# Altium integrated library Philips Discrete Diode - Switching.IntLib: 284 symbols (part 1 of 5)
Pins are listed as number, name and electrical type; pins without a type are passive.

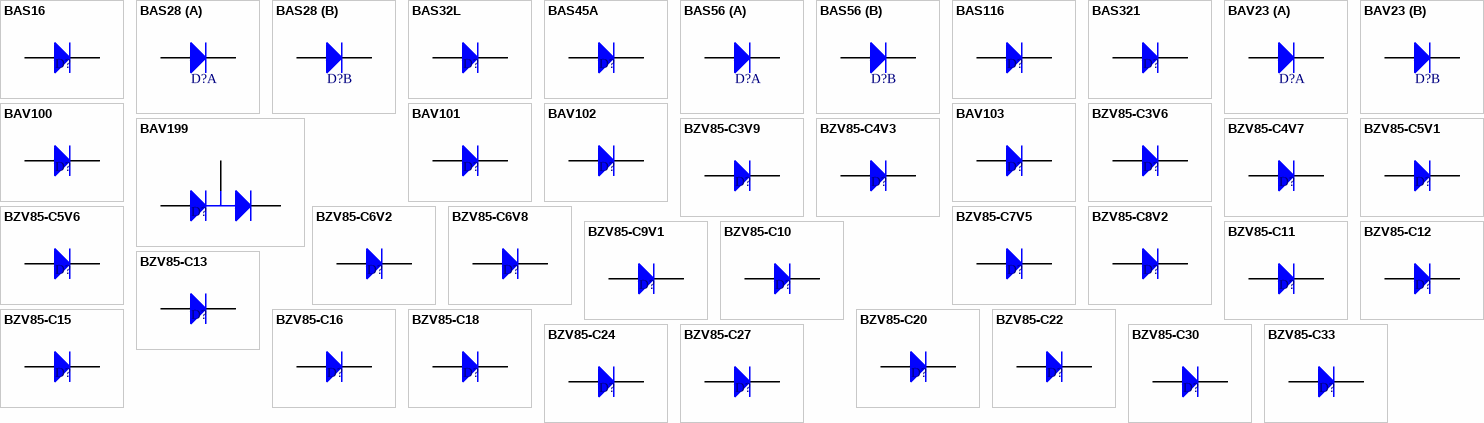
[diagram p0: symbols BAS16 to BZV85-C33]

## BAS16
designator D?
High-speed Switching Diode; Note: Pin 2 is not connected and not drawn; Published: 17-Sep-2003; DatasheetVersion: 10-Oct-2001; PackageVersion: May-1999; PackageReference: SOT23; Publisher: Altium Limited; PackageDescription: SOT-23; 3 Leads; Body 3.0 x 2.5 mm, inc. leads (LxW max); ComponentLink1Description: Manufacturer Link; ComponentLink1URL: http://www.semiconductors.philips.com/; ComponentLink2Description: Datasheet; ComponentLink2URL: http://www.semiconductors.philips.com/acrobat/datasheets/BAS16_4.pdf
footprint SOT23 (SOT-23; 3 Leads; Body 3.0 x 2.5 mm, inc. leads (LxW max))
simulation model BAS16 (SUBCKT)
signal-integrity model BAS16
pins: 1 A, 3 K

## BAS28
designator D?
High-speed Switching, Double Diode; Published: 17-Sep-2003; DatasheetVersion: 10-Sep-1996; PackageVersion: Sep-1996; PackageReference: SOT143; Publisher: Altium Limited; PackageDescription: SOT-143; 4 Leads; Body 3 x 2.5 mm, inc. leads (LxW max); ComponentLink1Description: Manufacturer Link; ComponentLink1URL: http://www.semiconductors.philips.com/; ComponentLink2Description: Datasheet; ComponentLink2URL: http://www.semiconductors.philips.com/acrobat/datasheets/BAS28_2.pdf
footprint SOT143 (SOT-143; 4 Leads; Body 3 x 2.5 mm, inc. leads (LxW max))
simulation model BAS28 (SUBCKT)
signal-integrity model BAS28
part A pins: 1 K, 4 A
part B pins: 2 K, 3 A

## BAS32L
designator D?
High-speed Switching Diode; Published: 17-Sep-2003; LatestRevisionDate: 19-Mar-2004; LatestRevisionNote: Silkscreen size reduced.; DatasheetVersion: 23-Jan-2002; PackageVersion: Jan-2002; PackageReference: SOD80C; Publisher: Altium Limited; PackageDescription: Metal Electrode Face (MELF) Diode; Body 3.5 x 1.6 mm (LxDia); ComponentLink1Description: Manufacturer Link; ComponentLink1URL: http://www.semiconductors.philips.com/; ComponentLink2Description: Datasheet; ComponentLink2URL: http://www.semiconductors.philips.com/acrobat/datasheets/BAS32L_4.pdf
footprint SOD80C (Metal Electrode Face (MELF) Diode; Body 3.5 x 1.6 mm (LxDia))
simulation model BAS32L (SUBCKT)
signal-integrity model BAS32L
pins: 1 A, 2 K

## BAS45A
designator D?
Medium-speed Switching Diode with Low Leakage Current; Published: 17-Sep-2003; DatasheetVersion: 13-Mar-1996; PackageVersion: May-2000; PackageReference: SOD68; Publisher: Altium Limited; PackageDescription: Diode, Axial; Body 3 x 1.6 mm (LxDia. max), Lead Dia. 0.55 mm (max); Code_JEDEC: DO-204-AG; ComponentLink1Description: Manufacturer Link; ComponentLink1URL: http://www.semiconductors.philips.com/; ComponentLink2Description: Datasheet; ComponentLink2URL: http://www.semiconductors.philips.com/acrobat/datasheets/BAS45A_2.pdf
footprint SOD68 (Diode, Axial; Body 3 x 1.6 mm (LxDia. max), Lead Dia. 0.55 mm (max))
simulation model BAS45A (SUBCKT)
signal-integrity model BAS45A
pins: 1 A, 2 K

## BAS56
designator D?
High-speed Switching, Double Diode; Published: 17-Sep-2003; DatasheetVersion: 10-Sep-1996; PackageVersion: Sep-1996; PackageReference: SOT143; Publisher: Altium Limited; PackageDescription: SOT-143; 4 Leads; Body 3 x 2.5 mm, inc. leads (LxW max); ComponentLink1Description: Manufacturer Link; ComponentLink1URL: http://www.semiconductors.philips.com/; ComponentLink2Description: Datasheet; ComponentLink2URL: http://www.semiconductors.philips.com/acrobat/datasheets/BAS56_2.pdf
footprint SOT143 (SOT-143; 4 Leads; Body 3 x 2.5 mm, inc. leads (LxW max))
simulation model BAS56 (DIODE)
signal-integrity model BAS56
part A pins: 1 K, 4 A
part B pins: 2 K, 3 A

## BAS116
designator D?
Medium-speed Switching Diode with Low Leakage Current; Note: Pin 2 is not connected and not drawn; Published: 17-Sep-2003; DatasheetVersion: 26-May-1999; PackageVersion: May-1999; PackageReference: SOT23; Publisher: Altium Limited; PackageDescription: SOT-23; 3 Leads; Body 3.0 x 2.5 mm, inc. leads (LxW max); ComponentLink1Description: Manufacturer Link; ComponentLink1URL: http://www.semiconductors.philips.com/; ComponentLink2Description: Datasheet; ComponentLink2URL: http://www.semiconductors.philips.com/acrobat/datasheets/BAS116_4.pdf
footprint SOT23 (SOT-23; 3 Leads; Body 3.0 x 2.5 mm, inc. leads (LxW max))
simulation model BAS116 (SUBCKT)
signal-integrity model BAS116
pins: 1 A, 3 K

## BAS321
designator D?
General-purpose Diode; Published: 17-Sep-2003; LatestRevisionDate: 19-Mar-2004; LatestRevisionNote: Silkscreen size reduced.; DatasheetVersion: 9-Feb-1999; PackageVersion: May-1999; PackageReference: SOD323; Publisher: Altium Limited; PackageDescription: SOD-323/SC-76; 2 Leads; Body 1.7 x 1.3 mm, (LxW); ComponentLink1Description: Manufacturer Link; ComponentLink1URL: http://www.semiconductors.philips.com/; ComponentLink2Description: Datasheet; ComponentLink2URL: http://www.semiconductors.philips.com/acrobat/datasheets/BAS321_2.pdf
footprint SOD323 (SOD-323/SC-76; 2 Leads; Body 1.7 x 1.3 mm, (LxW))
simulation model BAS321 (SUBCKT)
signal-integrity model BAS321
pins: 1 K, 2 A

## BAV23
designator D?
General-purpose Double Diode; Published: 17-Sep-2003; DatasheetVersion: 17-Sep-1996; PackageVersion: Sep-1996; PackageReference: SOT143; Publisher: Altium Limited; PackageDescription: SOT-143; 4 Leads; Body 3 x 2.5 mm, inc. leads (LxW max); ComponentLink1Description: Manufacturer Link; ComponentLink1URL: http://www.semiconductors.philips.com/; ComponentLink2Description: Datasheet; ComponentLink2URL: http://www.semiconductors.philips.com/acrobat/datasheets/BAV23_2.pdf
footprint SOT143 (SOT-143; 4 Leads; Body 3 x 2.5 mm, inc. leads (LxW max))
simulation model BAV23 (SUBCKT)
signal-integrity model BAV23
part A pins: 1 K, 4 A
part B pins: 2 K, 3 A

## BAV100
designator D?
General-purpose Diode; Published: 17-Sep-2003; LatestRevisionDate: 19-Mar-2004; LatestRevisionNote: Silkscreen size reduced.; DatasheetVersion: 17-Sep-1996; PackageVersion: Jan-2002; PackageReference: SOD80C; Publisher: Altium Limited; PackageDescription: Metal Electrode Face (MELF) Diode; Body 3.5 x 1.6 mm (LxDia); ComponentLink1Description: Manufacturer Link; ComponentLink1URL: http://www.semiconductors.philips.com/; ComponentLink2Description: Datasheet; ComponentLink2URL: http://www.semiconductors.philips.com/acrobat/datasheets/BAV100_2.pdf
footprint SOD80C (Metal Electrode Face (MELF) Diode; Body 3.5 x 1.6 mm (LxDia))
simulation model BAV103 (SUBCKT)
signal-integrity model BAV100
pins: 1 A, 2 K

## BAV101
designator D?
General-purpose Diode; Published: 17-Sep-2003; LatestRevisionDate: 19-Mar-2004; LatestRevisionNote: Silkscreen size reduced.; DatasheetVersion: 17-Sep-1996; PackageVersion: Jan-2002; PackageReference: SOD80C; Publisher: Altium Limited; PackageDescription: Metal Electrode Face (MELF) Diode; Body 3.5 x 1.6 mm (LxDia); ComponentLink1Description: Manufacturer Link; ComponentLink1URL: http://www.semiconductors.philips.com/; ComponentLink2Description: Datasheet; ComponentLink2URL: http://www.semiconductors.philips.com/acrobat/datasheets/BAV100_2.pdf
footprint SOD80C (Metal Electrode Face (MELF) Diode; Body 3.5 x 1.6 mm (LxDia))
simulation model BAV103 (SUBCKT)
signal-integrity model BAV101
pins: 1 A, 2 K

## BAV102
designator D?
General-purpose Diode; Published: 17-Sep-2003; LatestRevisionDate: 19-Mar-2004; LatestRevisionNote: Silkscreen size reduced.; DatasheetVersion: 17-Sep-1996; PackageVersion: Jan-2002; PackageReference: SOD80C; Publisher: Altium Limited; PackageDescription: Metal Electrode Face (MELF) Diode; Body 3.5 x 1.6 mm (LxDia); ComponentLink1Description: Manufacturer Link; ComponentLink1URL: http://www.semiconductors.philips.com/; ComponentLink2Description: Datasheet; ComponentLink2URL: http://www.semiconductors.philips.com/acrobat/datasheets/BAV100_2.pdf
footprint SOD80C (Metal Electrode Face (MELF) Diode; Body 3.5 x 1.6 mm (LxDia))
simulation model BAV103 (SUBCKT)
signal-integrity model BAV102
pins: 1 A, 2 K

## BAV103
designator D?
General-purpose Diode; Published: 17-Sep-2003; LatestRevisionDate: 19-Mar-2004; LatestRevisionNote: Silkscreen size reduced.; DatasheetVersion: 17-Sep-1996; PackageVersion: Jan-2002; PackageReference: SOD80C; Publisher: Altium Limited; PackageDescription: Metal Electrode Face (MELF) Diode; Body 3.5 x 1.6 mm (LxDia); ComponentLink1Description: Manufacturer Link; ComponentLink1URL: http://www.semiconductors.philips.com/; ComponentLink2Description: Datasheet; ComponentLink2URL: http://www.semiconductors.philips.com/acrobat/datasheets/BAV100_2.pdf
footprint SOD80C (Metal Electrode Face (MELF) Diode; Body 3.5 x 1.6 mm (LxDia))
simulation model BAV103 (SUBCKT)
signal-integrity model BAV103
pins: 1 A, 2 K

## BAV199
designator D?
Medium-speed Switching Double Diode with Low Leakage Current; Published: 17-Sep-2003; DatasheetVersion: 12-Oct-2001; PackageVersion: May-1999; PackageReference: SOT23; Publisher: Altium Limited; PackageDescription: SOT-23; 3 Leads; Body 3.0 x 2.5 mm, inc. leads (LxW max); ComponentLink1Description: Manufacturer Link; ComponentLink1URL: http://www.semiconductors.philips.com/; ComponentLink2Description: Datasheet; ComponentLink2URL: http://www.semiconductors.philips.com/acrobat/datasheets/BAV199_4.pdf
footprint SOT23 (SOT-23; 3 Leads; Body 3.0 x 2.5 mm, inc. leads (LxW max))
simulation model BAV199 (SUBCKT)
signal-integrity model BAV199
pins: 1 A, 2 K, 3 C

## BZV85-C3V6
designator D?
Voltage Regulator Diode; Published: 17-Sep-2003; DatasheetVersion: 11-May-1999; PackageVersion: May-1999; PackageReference: SOD66; Publisher: Altium Limited; PackageDescription: Diode, Axial; Body 4.8 x 2.6 mm (LxDia. max), Lead Dia. 0.81 mm (max); Code_JEDEC: DO-204-AL; ComponentLink1Description: Manufacturer Link; ComponentLink1URL: http://www.semiconductors.philips.com/; ComponentLink2Description: Datasheet; ComponentLink2URL: http://www.semiconductors.philips.com/acrobat/datasheets/BZV85_2.pdf
footprint SOD66 (Diode, Axial; Body 4.8 x 2.6 mm (LxDia. max), Lead Dia. 0.81 mm (max))
simulation model BZV85C3V6 (SUBCKT)
signal-integrity model BZV85-C3V6
pins: 1 A, 2 K

## BZV85-C3V9
designator D?
Voltage Regulator Diode; Published: 17-Sep-2003; DatasheetVersion: 11-May-1999; PackageVersion: May-1999; PackageReference: SOD66; Publisher: Altium Limited; PackageDescription: Diode, Axial; Body 4.8 x 2.6 mm (LxDia. max), Lead Dia. 0.81 mm (max); Code_JEDEC: DO-204-AL; ComponentLink1Description: Manufacturer Link; ComponentLink1URL: http://www.semiconductors.philips.com/; ComponentLink2Description: Datasheet; ComponentLink2URL: http://www.semiconductors.philips.com/acrobat/datasheets/BZV85_2.pdf
footprint SOD66 (Diode, Axial; Body 4.8 x 2.6 mm (LxDia. max), Lead Dia. 0.81 mm (max))
simulation model BZV85C3V9 (SUBCKT)
signal-integrity model BZV85-C3V9
pins: 1 A, 2 K

## BZV85-C4V3
designator D?
Voltage Regulator Diode; Published: 17-Sep-2003; DatasheetVersion: 11-May-1999; PackageVersion: May-1999; PackageReference: SOD66; Publisher: Altium Limited; PackageDescription: Diode, Axial; Body 4.8 x 2.6 mm (LxDia. max), Lead Dia. 0.81 mm (max); Code_JEDEC: DO-204-AL; ComponentLink1Description: Manufacturer Link; ComponentLink1URL: http://www.semiconductors.philips.com/; ComponentLink2Description: Datasheet; ComponentLink2URL: http://www.semiconductors.philips.com/acrobat/datasheets/BZV85_2.pdf
footprint SOD66 (Diode, Axial; Body 4.8 x 2.6 mm (LxDia. max), Lead Dia. 0.81 mm (max))
simulation model BZV85C4V3 (SUBCKT)
signal-integrity model BZV85-C4V3
pins: 1 A, 2 K

## BZV85-C4V7
designator D?
Voltage Regulator Diode; Published: 17-Sep-2003; DatasheetVersion: 11-May-1999; PackageVersion: May-1999; PackageReference: SOD66; Publisher: Altium Limited; PackageDescription: Diode, Axial; Body 4.8 x 2.6 mm (LxDia. max), Lead Dia. 0.81 mm (max); Code_JEDEC: DO-204-AL; ComponentLink1Description: Manufacturer Link; ComponentLink1URL: http://www.semiconductors.philips.com/; ComponentLink2Description: Datasheet; ComponentLink2URL: http://www.semiconductors.philips.com/acrobat/datasheets/BZV85_2.pdf
footprint SOD66 (Diode, Axial; Body 4.8 x 2.6 mm (LxDia. max), Lead Dia. 0.81 mm (max))
simulation model BZV85C4V7 (SUBCKT)
signal-integrity model BZV85-C4V7
pins: 1 A, 2 K

## BZV85-C5V1
designator D?
Voltage Regulator Diode; Published: 17-Sep-2003; DatasheetVersion: 11-May-1999; PackageVersion: May-1999; PackageReference: SOD66; Publisher: Altium Limited; PackageDescription: Diode, Axial; Body 4.8 x 2.6 mm (LxDia. max), Lead Dia. 0.81 mm (max); Code_JEDEC: DO-204-AL; ComponentLink1Description: Manufacturer Link; ComponentLink1URL: http://www.semiconductors.philips.com/; ComponentLink2Description: Datasheet; ComponentLink2URL: http://www.semiconductors.philips.com/acrobat/datasheets/BZV85_2.pdf
footprint SOD66 (Diode, Axial; Body 4.8 x 2.6 mm (LxDia. max), Lead Dia. 0.81 mm (max))
simulation model BZV85C5V1 (SUBCKT)
signal-integrity model BZV85-C5V1
pins: 1 A, 2 K

## BZV85-C5V6
designator D?
Voltage Regulator Diode; Published: 17-Sep-2003; DatasheetVersion: 11-May-1999; PackageVersion: May-1999; PackageReference: SOD66; Publisher: Altium Limited; PackageDescription: Diode, Axial; Body 4.8 x 2.6 mm (LxDia. max), Lead Dia. 0.81 mm (max); Code_JEDEC: DO-204-AL; ComponentLink1Description: Manufacturer Link; ComponentLink1URL: http://www.semiconductors.philips.com/; ComponentLink2Description: Datasheet; ComponentLink2URL: http://www.semiconductors.philips.com/acrobat/datasheets/BZV85_2.pdf
footprint SOD66 (Diode, Axial; Body 4.8 x 2.6 mm (LxDia. max), Lead Dia. 0.81 mm (max))
simulation model BZV85C5V6 (SUBCKT)
signal-integrity model BZV85-C5V6
pins: 1 A, 2 K

## BZV85-C6V2
designator D?
Voltage Regulator Diode; Published: 17-Sep-2003; DatasheetVersion: 11-May-1999; PackageVersion: May-1999; PackageReference: SOD66; Publisher: Altium Limited; PackageDescription: Diode, Axial; Body 4.8 x 2.6 mm (LxDia. max), Lead Dia. 0.81 mm (max); Code_JEDEC: DO-204-AL; ComponentLink1Description: Manufacturer Link; ComponentLink1URL: http://www.semiconductors.philips.com/; ComponentLink2Description: Datasheet; ComponentLink2URL: http://www.semiconductors.philips.com/acrobat/datasheets/BZV85_2.pdf
footprint SOD66 (Diode, Axial; Body 4.8 x 2.6 mm (LxDia. max), Lead Dia. 0.81 mm (max))
simulation model BZV85C6V2 (SUBCKT)
signal-integrity model BZV85-C6V2
pins: 1 A, 2 K

## BZV85-C6V8
designator D?
Voltage Regulator Diode; Published: 17-Sep-2003; DatasheetVersion: 11-May-1999; PackageVersion: May-1999; PackageReference: SOD66; Publisher: Altium Limited; PackageDescription: Diode, Axial; Body 4.8 x 2.6 mm (LxDia. max), Lead Dia. 0.81 mm (max); Code_JEDEC: DO-204-AL; ComponentLink1Description: Manufacturer Link; ComponentLink1URL: http://www.semiconductors.philips.com/; ComponentLink2Description: Datasheet; ComponentLink2URL: http://www.semiconductors.philips.com/acrobat/datasheets/BZV85_2.pdf
footprint SOD66 (Diode, Axial; Body 4.8 x 2.6 mm (LxDia. max), Lead Dia. 0.81 mm (max))
simulation model BZV85C6V8 (SUBCKT)
signal-integrity model BZV85-C6V8
pins: 1 A, 2 K

## BZV85-C7V5
designator D?
Voltage Regulator Diode; Published: 17-Sep-2003; DatasheetVersion: 11-May-1999; PackageVersion: May-1999; PackageReference: SOD66; Publisher: Altium Limited; PackageDescription: Diode, Axial; Body 4.8 x 2.6 mm (LxDia. max), Lead Dia. 0.81 mm (max); Code_JEDEC: DO-204-AL; ComponentLink1Description: Manufacturer Link; ComponentLink1URL: http://www.semiconductors.philips.com/; ComponentLink2Description: Datasheet; ComponentLink2URL: http://www.semiconductors.philips.com/acrobat/datasheets/BZV85_2.pdf
footprint SOD66 (Diode, Axial; Body 4.8 x 2.6 mm (LxDia. max), Lead Dia. 0.81 mm (max))
simulation model BZV85C7V5 (SUBCKT)
signal-integrity model BZV85-C7V5
pins: 1 A, 2 K

## BZV85-C8V2
designator D?
Voltage Regulator Diode; Published: 17-Sep-2003; DatasheetVersion: 11-May-1999; PackageVersion: May-1999; PackageReference: SOD66; Publisher: Altium Limited; PackageDescription: Diode, Axial; Body 4.8 x 2.6 mm (LxDia. max), Lead Dia. 0.81 mm (max); Code_JEDEC: DO-204-AL; ComponentLink1Description: Manufacturer Link; ComponentLink1URL: http://www.semiconductors.philips.com/; ComponentLink2Description: Datasheet; ComponentLink2URL: http://www.semiconductors.philips.com/acrobat/datasheets/BZV85_2.pdf
footprint SOD66 (Diode, Axial; Body 4.8 x 2.6 mm (LxDia. max), Lead Dia. 0.81 mm (max))
simulation model BZV85C8V2 (SUBCKT)
signal-integrity model BZV85-C8V2
pins: 1 A, 2 K

## BZV85-C9V1
designator D?
Voltage Regulator Diode; Published: 17-Sep-2003; DatasheetVersion: 11-May-1999; PackageVersion: May-1999; PackageReference: SOD66; Publisher: Altium Limited; PackageDescription: Diode, Axial; Body 4.8 x 2.6 mm (LxDia. max), Lead Dia. 0.81 mm (max); Code_JEDEC: DO-204-AL; ComponentLink1Description: Manufacturer Link; ComponentLink1URL: http://www.semiconductors.philips.com/; ComponentLink2Description: Datasheet; ComponentLink2URL: http://www.semiconductors.philips.com/acrobat/datasheets/BZV85_2.pdf
footprint SOD66 (Diode, Axial; Body 4.8 x 2.6 mm (LxDia. max), Lead Dia. 0.81 mm (max))
simulation model BZV85C9V1 (SUBCKT)
signal-integrity model BZV85-C9V1
pins: 1 A, 2 K

## BZV85-C10
designator D?
Voltage Regulator Diode; Published: 17-Sep-2003; DatasheetVersion: 11-May-1999; PackageVersion: May-1999; PackageReference: SOD66; Publisher: Altium Limited; PackageDescription: Diode, Axial; Body 4.8 x 2.6 mm (LxDia. max), Lead Dia. 0.81 mm (max); Code_JEDEC: DO-204-AL; ComponentLink1Description: Manufacturer Link; ComponentLink1URL: http://www.semiconductors.philips.com/; ComponentLink2Description: Datasheet; ComponentLink2URL: http://www.semiconductors.philips.com/acrobat/datasheets/BZV85_2.pdf
footprint SOD66 (Diode, Axial; Body 4.8 x 2.6 mm (LxDia. max), Lead Dia. 0.81 mm (max))
simulation model BZV85C10 (SUBCKT)
signal-integrity model BZV85-C10
pins: 1 A, 2 K

## BZV85-C11
designator D?
Voltage Regulator Diode; Published: 17-Sep-2003; DatasheetVersion: 11-May-1999; PackageVersion: May-1999; PackageReference: SOD66; Publisher: Altium Limited; PackageDescription: Diode, Axial; Body 4.8 x 2.6 mm (LxDia. max), Lead Dia. 0.81 mm (max); Code_JEDEC: DO-204-AL; ComponentLink1Description: Manufacturer Link; ComponentLink1URL: http://www.semiconductors.philips.com/; ComponentLink2Description: Datasheet; ComponentLink2URL: http://www.semiconductors.philips.com/acrobat/datasheets/BZV85_2.pdf
footprint SOD66 (Diode, Axial; Body 4.8 x 2.6 mm (LxDia. max), Lead Dia. 0.81 mm (max))
simulation model BZV85C11 (SUBCKT)
signal-integrity model BZV85-C11
pins: 1 A, 2 K

## BZV85-C12
designator D?
Voltage Regulator Diode; Published: 17-Sep-2003; DatasheetVersion: 11-May-1999; PackageVersion: May-1999; PackageReference: SOD66; Publisher: Altium Limited; PackageDescription: Diode, Axial; Body 4.8 x 2.6 mm (LxDia. max), Lead Dia. 0.81 mm (max); Code_JEDEC: DO-204-AL; ComponentLink1Description: Manufacturer Link; ComponentLink1URL: http://www.semiconductors.philips.com/; ComponentLink2Description: Datasheet; ComponentLink2URL: http://www.semiconductors.philips.com/acrobat/datasheets/BZV85_2.pdf
footprint SOD66 (Diode, Axial; Body 4.8 x 2.6 mm (LxDia. max), Lead Dia. 0.81 mm (max))
simulation model BZV85C12 (SUBCKT)
signal-integrity model BZV85-C12
pins: 1 A, 2 K

## BZV85-C13
designator D?
Voltage Regulator Diode; Published: 17-Sep-2003; DatasheetVersion: 11-May-1999; PackageVersion: May-1999; PackageReference: SOD66; Publisher: Altium Limited; PackageDescription: Diode, Axial; Body 4.8 x 2.6 mm (LxDia. max), Lead Dia. 0.81 mm (max); Code_JEDEC: DO-204-AL; ComponentLink1Description: Manufacturer Link; ComponentLink1URL: http://www.semiconductors.philips.com/; ComponentLink2Description: Datasheet; ComponentLink2URL: http://www.semiconductors.philips.com/acrobat/datasheets/BZV85_2.pdf
footprint SOD66 (Diode, Axial; Body 4.8 x 2.6 mm (LxDia. max), Lead Dia. 0.81 mm (max))
simulation model BZV85C13 (SUBCKT)
signal-integrity model BZV85-C13
pins: 1 A, 2 K

## BZV85-C15
designator D?
Voltage Regulator Diode; Published: 17-Sep-2003; DatasheetVersion: 11-May-1999; PackageVersion: May-1999; PackageReference: SOD66; Publisher: Altium Limited; PackageDescription: Diode, Axial; Body 4.8 x 2.6 mm (LxDia. max), Lead Dia. 0.81 mm (max); Code_JEDEC: DO-204-AL; ComponentLink1Description: Manufacturer Link; ComponentLink1URL: http://www.semiconductors.philips.com/; ComponentLink2Description: Datasheet; ComponentLink2URL: http://www.semiconductors.philips.com/acrobat/datasheets/BZV85_2.pdf
footprint SOD66 (Diode, Axial; Body 4.8 x 2.6 mm (LxDia. max), Lead Dia. 0.81 mm (max))
simulation model BZV85C15 (SUBCKT)
signal-integrity model BZV85-C15
pins: 1 A, 2 K

## BZV85-C16
designator D?
Voltage Regulator Diode; Published: 17-Sep-2003; DatasheetVersion: 11-May-1999; PackageVersion: May-1999; PackageReference: SOD66; Publisher: Altium Limited; PackageDescription: Diode, Axial; Body 4.8 x 2.6 mm (LxDia. max), Lead Dia. 0.81 mm (max); Code_JEDEC: DO-204-AL; ComponentLink1Description: Manufacturer Link; ComponentLink1URL: http://www.semiconductors.philips.com/; ComponentLink2Description: Datasheet; ComponentLink2URL: http://www.semiconductors.philips.com/acrobat/datasheets/BZV85_2.pdf
footprint SOD66 (Diode, Axial; Body 4.8 x 2.6 mm (LxDia. max), Lead Dia. 0.81 mm (max))
simulation model BZV85C16 (SUBCKT)
signal-integrity model BZV85-C16
pins: 1 A, 2 K

## BZV85-C18
designator D?
Voltage Regulator Diode; Published: 17-Sep-2003; DatasheetVersion: 11-May-1999; PackageVersion: May-1999; PackageReference: SOD66; Publisher: Altium Limited; PackageDescription: Diode, Axial; Body 4.8 x 2.6 mm (LxDia. max), Lead Dia. 0.81 mm (max); Code_JEDEC: DO-204-AL; ComponentLink1Description: Manufacturer Link; ComponentLink1URL: http://www.semiconductors.philips.com/; ComponentLink2Description: Datasheet; ComponentLink2URL: http://www.semiconductors.philips.com/acrobat/datasheets/BZV85_2.pdf
footprint SOD66 (Diode, Axial; Body 4.8 x 2.6 mm (LxDia. max), Lead Dia. 0.81 mm (max))
simulation model BZV85C18 (SUBCKT)
signal-integrity model BZV85-C18
pins: 1 A, 2 K

## BZV85-C20
designator D?
Voltage Regulator Diode; Published: 17-Sep-2003; DatasheetVersion: 11-May-1999; PackageVersion: May-1999; PackageReference: SOD66; Publisher: Altium Limited; PackageDescription: Diode, Axial; Body 4.8 x 2.6 mm (LxDia. max), Lead Dia. 0.81 mm (max); Code_JEDEC: DO-204-AL; ComponentLink1Description: Manufacturer Link; ComponentLink1URL: http://www.semiconductors.philips.com/; ComponentLink2Description: Datasheet; ComponentLink2URL: http://www.semiconductors.philips.com/acrobat/datasheets/BZV85_2.pdf
footprint SOD66 (Diode, Axial; Body 4.8 x 2.6 mm (LxDia. max), Lead Dia. 0.81 mm (max))
simulation model BZV85C20 (SUBCKT)
signal-integrity model BZV85-C20
pins: 1 A, 2 K

## BZV85-C22
designator D?
Voltage Regulator Diode; Published: 17-Sep-2003; DatasheetVersion: 11-May-1999; PackageVersion: May-1999; PackageReference: SOD66; Publisher: Altium Limited; PackageDescription: Diode, Axial; Body 4.8 x 2.6 mm (LxDia. max), Lead Dia. 0.81 mm (max); Code_JEDEC: DO-204-AL; ComponentLink1Description: Manufacturer Link; ComponentLink1URL: http://www.semiconductors.philips.com/; ComponentLink2Description: Datasheet; ComponentLink2URL: http://www.semiconductors.philips.com/acrobat/datasheets/BZV85_2.pdf
footprint SOD66 (Diode, Axial; Body 4.8 x 2.6 mm (LxDia. max), Lead Dia. 0.81 mm (max))
simulation model BZV85C22 (SUBCKT)
signal-integrity model BZV85-C22
pins: 1 A, 2 K

## BZV85-C24
designator D?
Voltage Regulator Diode; Published: 17-Sep-2003; DatasheetVersion: 11-May-1999; PackageVersion: May-1999; PackageReference: SOD66; Publisher: Altium Limited; PackageDescription: Diode, Axial; Body 4.8 x 2.6 mm (LxDia. max), Lead Dia. 0.81 mm (max); Code_JEDEC: DO-204-AL; ComponentLink1Description: Manufacturer Link; ComponentLink1URL: http://www.semiconductors.philips.com/; ComponentLink2Description: Datasheet; ComponentLink2URL: http://www.semiconductors.philips.com/acrobat/datasheets/BZV85_2.pdf
footprint SOD66 (Diode, Axial; Body 4.8 x 2.6 mm (LxDia. max), Lead Dia. 0.81 mm (max))
simulation model BZV85C24 (SUBCKT)
signal-integrity model BZV85-C24
pins: 1 A, 2 K

## BZV85-C27
designator D?
Voltage Regulator Diode; Published: 17-Sep-2003; DatasheetVersion: 11-May-1999; PackageVersion: May-1999; PackageReference: SOD66; Publisher: Altium Limited; PackageDescription: Diode, Axial; Body 4.8 x 2.6 mm (LxDia. max), Lead Dia. 0.81 mm (max); Code_JEDEC: DO-204-AL; ComponentLink1Description: Manufacturer Link; ComponentLink1URL: http://www.semiconductors.philips.com/; ComponentLink2Description: Datasheet; ComponentLink2URL: http://www.semiconductors.philips.com/acrobat/datasheets/BZV85_2.pdf
footprint SOD66 (Diode, Axial; Body 4.8 x 2.6 mm (LxDia. max), Lead Dia. 0.81 mm (max))
simulation model BZV85C27 (SUBCKT)
signal-integrity model BZV85-C27
pins: 1 A, 2 K

## BZV85-C30
designator D?
Voltage Regulator Diode; Published: 17-Sep-2003; DatasheetVersion: 11-May-1999; PackageVersion: May-1999; PackageReference: SOD66; Publisher: Altium Limited; PackageDescription: Diode, Axial; Body 4.8 x 2.6 mm (LxDia. max), Lead Dia. 0.81 mm (max); Code_JEDEC: DO-204-AL; ComponentLink1Description: Manufacturer Link; ComponentLink1URL: http://www.semiconductors.philips.com/; ComponentLink2Description: Datasheet; ComponentLink2URL: http://www.semiconductors.philips.com/acrobat/datasheets/BZV85_2.pdf
footprint SOD66 (Diode, Axial; Body 4.8 x 2.6 mm (LxDia. max), Lead Dia. 0.81 mm (max))
simulation model BZV85C30 (SUBCKT)
signal-integrity model BZV85-C30
pins: 1 A, 2 K

## BZV85-C33
designator D?
Voltage Regulator Diode; Published: 17-Sep-2003; DatasheetVersion: 11-May-1999; PackageVersion: May-1999; PackageReference: SOD66; Publisher: Altium Limited; PackageDescription: Diode, Axial; Body 4.8 x 2.6 mm (LxDia. max), Lead Dia. 0.81 mm (max); Code_JEDEC: DO-204-AL; ComponentLink1Description: Manufacturer Link; ComponentLink1URL: http://www.semiconductors.philips.com/; ComponentLink2Description: Datasheet; ComponentLink2URL: http://www.semiconductors.philips.com/acrobat/datasheets/BZV85_2.pdf
footprint SOD66 (Diode, Axial; Body 4.8 x 2.6 mm (LxDia. max), Lead Dia. 0.81 mm (max))
simulation model BZV85C33 (SUBCKT)
signal-integrity model BZV85-C33
pins: 1 A, 2 K

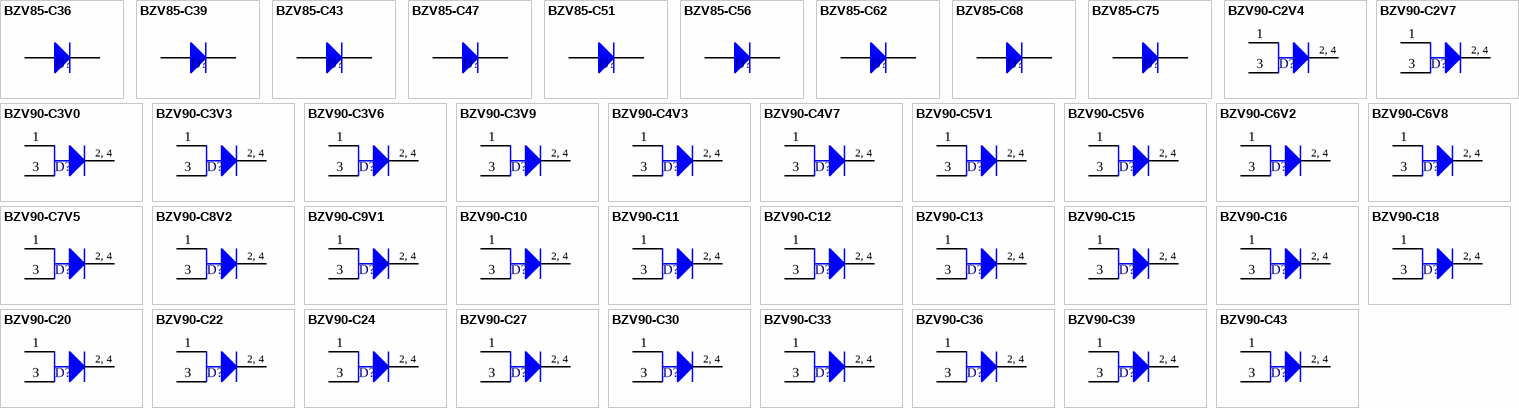
[diagram p1: symbols BZV85-C36 to BZV90-C43]

## BZV85-C36
designator D?
Voltage Regulator Diode; Published: 17-Sep-2003; DatasheetVersion: 11-May-1999; PackageVersion: May-1999; PackageReference: SOD66; Publisher: Altium Limited; PackageDescription: Diode, Axial; Body 4.8 x 2.6 mm (LxDia. max), Lead Dia. 0.81 mm (max); Code_JEDEC: DO-204-AL; ComponentLink1Description: Manufacturer Link; ComponentLink1URL: http://www.semiconductors.philips.com/; ComponentLink2Description: Datasheet; ComponentLink2URL: http://www.semiconductors.philips.com/acrobat/datasheets/BZV85_2.pdf
footprint SOD66 (Diode, Axial; Body 4.8 x 2.6 mm (LxDia. max), Lead Dia. 0.81 mm (max))
simulation model BZV85C36 (SUBCKT)
signal-integrity model BZV85-C36
pins: 1 A, 2 K

## BZV85-C39
designator D?
Voltage Regulator Diode; Published: 17-Sep-2003; DatasheetVersion: 11-May-1999; PackageVersion: May-1999; PackageReference: SOD66; Publisher: Altium Limited; PackageDescription: Diode, Axial; Body 4.8 x 2.6 mm (LxDia. max), Lead Dia. 0.81 mm (max); Code_JEDEC: DO-204-AL; ComponentLink1Description: Manufacturer Link; ComponentLink1URL: http://www.semiconductors.philips.com/; ComponentLink2Description: Datasheet; ComponentLink2URL: http://www.semiconductors.philips.com/acrobat/datasheets/BZV85_2.pdf
footprint SOD66 (Diode, Axial; Body 4.8 x 2.6 mm (LxDia. max), Lead Dia. 0.81 mm (max))
simulation model BZV85C39 (SUBCKT)
signal-integrity model BZV85-C39
pins: 1 A, 2 K

## BZV85-C43
designator D?
Voltage Regulator Diode; Published: 17-Sep-2003; DatasheetVersion: 11-May-1999; PackageVersion: May-1999; PackageReference: SOD66; Publisher: Altium Limited; PackageDescription: Diode, Axial; Body 4.8 x 2.6 mm (LxDia. max), Lead Dia. 0.81 mm (max); Code_JEDEC: DO-204-AL; ComponentLink1Description: Manufacturer Link; ComponentLink1URL: http://www.semiconductors.philips.com/; ComponentLink2Description: Datasheet; ComponentLink2URL: http://www.semiconductors.philips.com/acrobat/datasheets/BZV85_2.pdf
footprint SOD66 (Diode, Axial; Body 4.8 x 2.6 mm (LxDia. max), Lead Dia. 0.81 mm (max))
simulation model BZV85C43 (SUBCKT)
signal-integrity model BZV85-C43
pins: 1 A, 2 K

## BZV85-C47
designator D?
Voltage Regulator Diode; Published: 17-Sep-2003; DatasheetVersion: 11-May-1999; PackageVersion: May-1999; PackageReference: SOD66; Publisher: Altium Limited; PackageDescription: Diode, Axial; Body 4.8 x 2.6 mm (LxDia. max), Lead Dia. 0.81 mm (max); Code_JEDEC: DO-204-AL; ComponentLink1Description: Manufacturer Link; ComponentLink1URL: http://www.semiconductors.philips.com/; ComponentLink2Description: Datasheet; ComponentLink2URL: http://www.semiconductors.philips.com/acrobat/datasheets/BZV85_2.pdf
footprint SOD66 (Diode, Axial; Body 4.8 x 2.6 mm (LxDia. max), Lead Dia. 0.81 mm (max))
simulation model BZV85C47 (SUBCKT)
signal-integrity model BZV85-C47
pins: 1 A, 2 K

## BZV85-C51
designator D?
Voltage Regulator Diode; Published: 17-Sep-2003; DatasheetVersion: 11-May-1999; PackageVersion: May-1999; PackageReference: SOD66; Publisher: Altium Limited; PackageDescription: Diode, Axial; Body 4.8 x 2.6 mm (LxDia. max), Lead Dia. 0.81 mm (max); Code_JEDEC: DO-204-AL; ComponentLink1Description: Manufacturer Link; ComponentLink1URL: http://www.semiconductors.philips.com/; ComponentLink2Description: Datasheet; ComponentLink2URL: http://www.semiconductors.philips.com/acrobat/datasheets/BZV85_2.pdf
footprint SOD66 (Diode, Axial; Body 4.8 x 2.6 mm (LxDia. max), Lead Dia. 0.81 mm (max))
simulation model BZV85C51 (SUBCKT)
signal-integrity model BZV85-C51
pins: 1 A, 2 K

## BZV85-C56
designator D?
Voltage Regulator Diode; Published: 17-Sep-2003; DatasheetVersion: 11-May-1999; PackageVersion: May-1999; PackageReference: SOD66; Publisher: Altium Limited; PackageDescription: Diode, Axial; Body 4.8 x 2.6 mm (LxDia. max), Lead Dia. 0.81 mm (max); Code_JEDEC: DO-204-AL; ComponentLink1Description: Manufacturer Link; ComponentLink1URL: http://www.semiconductors.philips.com/; ComponentLink2Description: Datasheet; ComponentLink2URL: http://www.semiconductors.philips.com/acrobat/datasheets/BZV85_2.pdf
footprint SOD66 (Diode, Axial; Body 4.8 x 2.6 mm (LxDia. max), Lead Dia. 0.81 mm (max))
simulation model BZV85C56 (SUBCKT)
signal-integrity model BZV85-C56
pins: 1 A, 2 K

## BZV85-C62
designator D?
Voltage Regulator Diode; Published: 17-Sep-2003; DatasheetVersion: 11-May-1999; PackageVersion: May-1999; PackageReference: SOD66; Publisher: Altium Limited; PackageDescription: Diode, Axial; Body 4.8 x 2.6 mm (LxDia. max), Lead Dia. 0.81 mm (max); Code_JEDEC: DO-204-AL; ComponentLink1Description: Manufacturer Link; ComponentLink1URL: http://www.semiconductors.philips.com/; ComponentLink2Description: Datasheet; ComponentLink2URL: http://www.semiconductors.philips.com/acrobat/datasheets/BZV85_2.pdf
footprint SOD66 (Diode, Axial; Body 4.8 x 2.6 mm (LxDia. max), Lead Dia. 0.81 mm (max))
simulation model BZV85C62 (SUBCKT)
signal-integrity model BZV85-C62
pins: 1 A, 2 K

## BZV85-C68
designator D?
Voltage Regulator Diode; Published: 17-Sep-2003; DatasheetVersion: 11-May-1999; PackageVersion: May-1999; PackageReference: SOD66; Publisher: Altium Limited; PackageDescription: Diode, Axial; Body 4.8 x 2.6 mm (LxDia. max), Lead Dia. 0.81 mm (max); Code_JEDEC: DO-204-AL; ComponentLink1Description: Manufacturer Link; ComponentLink1URL: http://www.semiconductors.philips.com/; ComponentLink2Description: Datasheet; ComponentLink2URL: http://www.semiconductors.philips.com/acrobat/datasheets/BZV85_2.pdf
footprint SOD66 (Diode, Axial; Body 4.8 x 2.6 mm (LxDia. max), Lead Dia. 0.81 mm (max))
simulation model BZV85C68 (SUBCKT)
signal-integrity model BZV85-C68
pins: 1 A, 2 K

## BZV85-C75
designator D?
Voltage Regulator Diode; Published: 17-Sep-2003; DatasheetVersion: 11-May-1999; PackageVersion: May-1999; PackageReference: SOD66; Publisher: Altium Limited; PackageDescription: Diode, Axial; Body 4.8 x 2.6 mm (LxDia. max), Lead Dia. 0.81 mm (max); Code_JEDEC: DO-204-AL; ComponentLink1Description: Manufacturer Link; ComponentLink1URL: http://www.semiconductors.philips.com/; ComponentLink2Description: Datasheet; ComponentLink2URL: http://www.semiconductors.philips.com/acrobat/datasheets/BZV85_2.pdf
footprint SOD66 (Diode, Axial; Body 4.8 x 2.6 mm (LxDia. max), Lead Dia. 0.81 mm (max))
simulation model BZV85C75 (SUBCKT)
signal-integrity model BZV85-C75
pins: 1 A, 2 K

## BZV90-C2V4
designator D?
Voltage Regulator Diode; Published: 17-Sep-2003; DatasheetVersion: 17-May-1999; PackageVersion: Aug-2001; PackageReference: SOT223; Publisher: Altium Limited; PackageDescription: SOT-223/SC-73; 4 Leads; Body 6.7 x 7.3 mm, inc. leads (LxW max); ComponentLink1Description: Manufacturer Link; ComponentLink1URL: http://www.semiconductors.philips.com/; ComponentLink2Description: Datasheet; ComponentLink2URL: http://www.semiconductors.philips.com/acrobat/datasheets/BZV90_3.pdf
footprint SOT223 (SOT-223/SC-73; 4 Leads; Body 6.7 x 7.3 mm, inc. leads (LxW max))
simulation model BZV90C2V4 (SUBCKT)
signal-integrity model BZV90-C2V4
pins: 1 A, 2 K, 3 A, 4 K
text: 2, 4

## BZV90-C2V7
designator D?
Voltage Regulator Diode; Published: 17-Sep-2003; DatasheetVersion: 17-May-1999; PackageVersion: Aug-2001; PackageReference: SOT223; Publisher: Altium Limited; PackageDescription: SOT-223/SC-73; 4 Leads; Body 6.7 x 7.3 mm, inc. leads (LxW max); ComponentLink1Description: Manufacturer Link; ComponentLink1URL: http://www.semiconductors.philips.com/; ComponentLink2Description: Datasheet; ComponentLink2URL: http://www.semiconductors.philips.com/acrobat/datasheets/BZV90_3.pdf
footprint SOT223 (SOT-223/SC-73; 4 Leads; Body 6.7 x 7.3 mm, inc. leads (LxW max))
simulation model BZV90C2V7 (SUBCKT)
signal-integrity model BZV90-C2V7
pins: 1 A, 2 K, 3 A, 4 K
text: 2, 4

## BZV90-C3V0
designator D?
Voltage Regulator Diode; Published: 17-Sep-2003; DatasheetVersion: 17-May-1999; PackageVersion: Aug-2001; PackageReference: SOT223; Publisher: Altium Limited; PackageDescription: SOT-223/SC-73; 4 Leads; Body 6.7 x 7.3 mm, inc. leads (LxW max); ComponentLink1Description: Manufacturer Link; ComponentLink1URL: http://www.semiconductors.philips.com/; ComponentLink2Description: Datasheet; ComponentLink2URL: http://www.semiconductors.philips.com/acrobat/datasheets/BZV90_3.pdf
footprint SOT223 (SOT-223/SC-73; 4 Leads; Body 6.7 x 7.3 mm, inc. leads (LxW max))
simulation model BZV90C3V0 (SUBCKT)
signal-integrity model BZV90-C3V0
pins: 1 A, 2 K, 3 A, 4 K
text: 2, 4

## BZV90-C3V3
designator D?
Voltage Regulator Diode; Published: 17-Sep-2003; DatasheetVersion: 17-May-1999; PackageVersion: Aug-2001; PackageReference: SOT223; Publisher: Altium Limited; PackageDescription: SOT-223/SC-73; 4 Leads; Body 6.7 x 7.3 mm, inc. leads (LxW max); ComponentLink1Description: Manufacturer Link; ComponentLink1URL: http://www.semiconductors.philips.com/; ComponentLink2Description: Datasheet; ComponentLink2URL: http://www.semiconductors.philips.com/acrobat/datasheets/BZV90_3.pdf
footprint SOT223 (SOT-223/SC-73; 4 Leads; Body 6.7 x 7.3 mm, inc. leads (LxW max))
simulation model BZV90C3V3 (SUBCKT)
signal-integrity model BZV90-C3V3
pins: 1 A, 2 K, 3 A, 4 K
text: 2, 4

## BZV90-C3V6
designator D?
Voltage Regulator Diode; Published: 17-Sep-2003; DatasheetVersion: 17-May-1999; PackageVersion: Aug-2001; PackageReference: SOT223; Publisher: Altium Limited; PackageDescription: SOT-223/SC-73; 4 Leads; Body 6.7 x 7.3 mm, inc. leads (LxW max); ComponentLink1Description: Manufacturer Link; ComponentLink1URL: http://www.semiconductors.philips.com/; ComponentLink2Description: Datasheet; ComponentLink2URL: http://www.semiconductors.philips.com/acrobat/datasheets/BZV90_3.pdf
footprint SOT223 (SOT-223/SC-73; 4 Leads; Body 6.7 x 7.3 mm, inc. leads (LxW max))
simulation model BZV90C3V6 (SUBCKT)
signal-integrity model BZV90-C3V6
pins: 1 A, 2 K, 3 A, 4 K
text: 2, 4

## BZV90-C3V9
designator D?
Voltage Regulator Diode; Published: 17-Sep-2003; DatasheetVersion: 17-May-1999; PackageVersion: Aug-2001; PackageReference: SOT223; Publisher: Altium Limited; PackageDescription: SOT-223/SC-73; 4 Leads; Body 6.7 x 7.3 mm, inc. leads (LxW max); ComponentLink1Description: Manufacturer Link; ComponentLink1URL: http://www.semiconductors.philips.com/; ComponentLink2Description: Datasheet; ComponentLink2URL: http://www.semiconductors.philips.com/acrobat/datasheets/BZV90_3.pdf
footprint SOT223 (SOT-223/SC-73; 4 Leads; Body 6.7 x 7.3 mm, inc. leads (LxW max))
simulation model BZV90C3V9 (SUBCKT)
signal-integrity model BZV90-C3V9
pins: 1 A, 2 K, 3 A, 4 K
text: 2, 4

## BZV90-C4V3
designator D?
Voltage Regulator Diode; Published: 17-Sep-2003; DatasheetVersion: 17-May-1999; PackageVersion: Aug-2001; PackageReference: SOT223; Publisher: Altium Limited; PackageDescription: SOT-223/SC-73; 4 Leads; Body 6.7 x 7.3 mm, inc. leads (LxW max); ComponentLink1Description: Manufacturer Link; ComponentLink1URL: http://www.semiconductors.philips.com/; ComponentLink2Description: Datasheet; ComponentLink2URL: http://www.semiconductors.philips.com/acrobat/datasheets/BZV90_3.pdf
footprint SOT223 (SOT-223/SC-73; 4 Leads; Body 6.7 x 7.3 mm, inc. leads (LxW max))
simulation model BZV90C4V3 (SUBCKT)
signal-integrity model BZV90-C4V3
pins: 1 A, 2 K, 3 A, 4 K
text: 2, 4

## BZV90-C4V7
designator D?
Voltage Regulator Diode; Published: 17-Sep-2003; DatasheetVersion: 17-May-1999; PackageVersion: Aug-2001; PackageReference: SOT223; Publisher: Altium Limited; PackageDescription: SOT-223/SC-73; 4 Leads; Body 6.7 x 7.3 mm, inc. leads (LxW max); ComponentLink1Description: Manufacturer Link; ComponentLink1URL: http://www.semiconductors.philips.com/; ComponentLink2Description: Datasheet; ComponentLink2URL: http://www.semiconductors.philips.com/acrobat/datasheets/BZV90_3.pdf
footprint SOT223 (SOT-223/SC-73; 4 Leads; Body 6.7 x 7.3 mm, inc. leads (LxW max))
simulation model BZV90C4V7 (SUBCKT)
signal-integrity model BZV90-C4V7
pins: 1 A, 2 K, 3 A, 4 K
text: 2, 4

## BZV90-C5V1
designator D?
Voltage Regulator Diode; Published: 17-Sep-2003; DatasheetVersion: 17-May-1999; PackageVersion: Aug-2001; PackageReference: SOT223; Publisher: Altium Limited; PackageDescription: SOT-223/SC-73; 4 Leads; Body 6.7 x 7.3 mm, inc. leads (LxW max); ComponentLink1Description: Manufacturer Link; ComponentLink1URL: http://www.semiconductors.philips.com/; ComponentLink2Description: Datasheet; ComponentLink2URL: http://www.semiconductors.philips.com/acrobat/datasheets/BZV90_3.pdf
footprint SOT223 (SOT-223/SC-73; 4 Leads; Body 6.7 x 7.3 mm, inc. leads (LxW max))
simulation model BZV90C5V1 (SUBCKT)
signal-integrity model BZV90-C5V1
pins: 1 A, 2 K, 3 A, 4 K
text: 2, 4

## BZV90-C5V6
designator D?
Voltage Regulator Diode; Published: 17-Sep-2003; DatasheetVersion: 17-May-1999; PackageVersion: Aug-2001; PackageReference: SOT223; Publisher: Altium Limited; PackageDescription: SOT-223/SC-73; 4 Leads; Body 6.7 x 7.3 mm, inc. leads (LxW max); ComponentLink1Description: Manufacturer Link; ComponentLink1URL: http://www.semiconductors.philips.com/; ComponentLink2Description: Datasheet; ComponentLink2URL: http://www.semiconductors.philips.com/acrobat/datasheets/BZV90_3.pdf
footprint SOT223 (SOT-223/SC-73; 4 Leads; Body 6.7 x 7.3 mm, inc. leads (LxW max))
simulation model BZV90C5V6 (SUBCKT)
signal-integrity model BZV90-C5V6
pins: 1 A, 2 K, 3 A, 4 K
text: 2, 4

## BZV90-C6V2
designator D?
Voltage Regulator Diode; Published: 17-Sep-2003; DatasheetVersion: 17-May-1999; PackageVersion: Aug-2001; PackageReference: SOT223; Publisher: Altium Limited; PackageDescription: SOT-223/SC-73; 4 Leads; Body 6.7 x 7.3 mm, inc. leads (LxW max); ComponentLink1Description: Manufacturer Link; ComponentLink1URL: http://www.semiconductors.philips.com/; ComponentLink2Description: Datasheet; ComponentLink2URL: http://www.semiconductors.philips.com/acrobat/datasheets/BZV90_3.pdf
footprint SOT223 (SOT-223/SC-73; 4 Leads; Body 6.7 x 7.3 mm, inc. leads (LxW max))
simulation model BZV90C6V2 (SUBCKT)
signal-integrity model BZV90-C6V2
pins: 1 A, 2 K, 3 A, 4 K
text: 2, 4

## BZV90-C6V8
designator D?
Voltage Regulator Diode; Published: 17-Sep-2003; DatasheetVersion: 17-May-1999; PackageVersion: Aug-2001; PackageReference: SOT223; Publisher: Altium Limited; PackageDescription: SOT-223/SC-73; 4 Leads; Body 6.7 x 7.3 mm, inc. leads (LxW max); ComponentLink1Description: Manufacturer Link; ComponentLink1URL: http://www.semiconductors.philips.com/; ComponentLink2Description: Datasheet; ComponentLink2URL: http://www.semiconductors.philips.com/acrobat/datasheets/BZV90_3.pdf
footprint SOT223 (SOT-223/SC-73; 4 Leads; Body 6.7 x 7.3 mm, inc. leads (LxW max))
simulation model BZV90C6V8 (SUBCKT)
signal-integrity model BZV90-C6V8
pins: 1 A, 2 K, 3 A, 4 K
text: 2, 4

## BZV90-C7V5
designator D?
Voltage Regulator Diode; Published: 17-Sep-2003; DatasheetVersion: 17-May-1999; PackageVersion: Aug-2001; PackageReference: SOT223; Publisher: Altium Limited; PackageDescription: SOT-223/SC-73; 4 Leads; Body 6.7 x 7.3 mm, inc. leads (LxW max); ComponentLink1Description: Manufacturer Link; ComponentLink1URL: http://www.semiconductors.philips.com/; ComponentLink2Description: Datasheet; ComponentLink2URL: http://www.semiconductors.philips.com/acrobat/datasheets/BZV90_3.pdf
footprint SOT223 (SOT-223/SC-73; 4 Leads; Body 6.7 x 7.3 mm, inc. leads (LxW max))
simulation model BZV90C7V5 (SUBCKT)
signal-integrity model BZV90-C7V5
pins: 1 A, 2 K, 3 A, 4 K
text: 2, 4

## BZV90-C8V2
designator D?
Voltage Regulator Diode; Published: 17-Sep-2003; DatasheetVersion: 17-May-1999; PackageVersion: Aug-2001; PackageReference: SOT223; Publisher: Altium Limited; PackageDescription: SOT-223/SC-73; 4 Leads; Body 6.7 x 7.3 mm, inc. leads (LxW max); ComponentLink1Description: Manufacturer Link; ComponentLink1URL: http://www.semiconductors.philips.com/; ComponentLink2Description: Datasheet; ComponentLink2URL: http://www.semiconductors.philips.com/acrobat/datasheets/BZV90_3.pdf
footprint SOT223 (SOT-223/SC-73; 4 Leads; Body 6.7 x 7.3 mm, inc. leads (LxW max))
simulation model BZV90C8V2 (SUBCKT)
signal-integrity model BZV90-C8V2
pins: 1 A, 2 K, 3 A, 4 K
text: 2, 4

## BZV90-C9V1
designator D?
Voltage Regulator Diode; Published: 17-Sep-2003; DatasheetVersion: 17-May-1999; PackageVersion: Aug-2001; PackageReference: SOT223; Publisher: Altium Limited; PackageDescription: SOT-223/SC-73; 4 Leads; Body 6.7 x 7.3 mm, inc. leads (LxW max); ComponentLink1Description: Manufacturer Link; ComponentLink1URL: http://www.semiconductors.philips.com/; ComponentLink2Description: Datasheet; ComponentLink2URL: http://www.semiconductors.philips.com/acrobat/datasheets/BZV90_3.pdf
footprint SOT223 (SOT-223/SC-73; 4 Leads; Body 6.7 x 7.3 mm, inc. leads (LxW max))
simulation model BZV90C9V1 (SUBCKT)
signal-integrity model BZV90-C9V1
pins: 1 A, 2 K, 3 A, 4 K
text: 2, 4

## BZV90-C10
designator D?
Voltage Regulator Diode; Published: 17-Sep-2003; DatasheetVersion: 17-May-1999; PackageVersion: Aug-2001; PackageReference: SOT223; Publisher: Altium Limited; PackageDescription: SOT-223/SC-73; 4 Leads; Body 6.7 x 7.3 mm, inc. leads (LxW max); ComponentLink1Description: Manufacturer Link; ComponentLink1URL: http://www.semiconductors.philips.com/; ComponentLink2Description: Datasheet; ComponentLink2URL: http://www.semiconductors.philips.com/acrobat/datasheets/BZV90_3.pdf
footprint SOT223 (SOT-223/SC-73; 4 Leads; Body 6.7 x 7.3 mm, inc. leads (LxW max))
simulation model BZV90C10 (SUBCKT)
signal-integrity model BZV90-C10
pins: 1 A, 2 K, 3 A, 4 K
text: 2, 4

## BZV90-C11
designator D?
Voltage Regulator Diode; Published: 17-Sep-2003; DatasheetVersion: 17-May-1999; PackageVersion: Aug-2001; PackageReference: SOT223; Publisher: Altium Limited; PackageDescription: SOT-223/SC-73; 4 Leads; Body 6.7 x 7.3 mm, inc. leads (LxW max); ComponentLink1Description: Manufacturer Link; ComponentLink1URL: http://www.semiconductors.philips.com/; ComponentLink2Description: Datasheet; ComponentLink2URL: http://www.semiconductors.philips.com/acrobat/datasheets/BZV90_3.pdf
footprint SOT223 (SOT-223/SC-73; 4 Leads; Body 6.7 x 7.3 mm, inc. leads (LxW max))
simulation model BZV90C11 (SUBCKT)
signal-integrity model BZV90-C11
pins: 1 A, 2 K, 3 A, 4 K
text: 2, 4

## BZV90-C12
designator D?
Voltage Regulator Diode; Published: 17-Sep-2003; DatasheetVersion: 17-May-1999; PackageVersion: Aug-2001; PackageReference: SOT223; Publisher: Altium Limited; PackageDescription: SOT-223/SC-73; 4 Leads; Body 6.7 x 7.3 mm, inc. leads (LxW max); ComponentLink1Description: Manufacturer Link; ComponentLink1URL: http://www.semiconductors.philips.com/; ComponentLink2Description: Datasheet; ComponentLink2URL: http://www.semiconductors.philips.com/acrobat/datasheets/BZV90_3.pdf
footprint SOT223 (SOT-223/SC-73; 4 Leads; Body 6.7 x 7.3 mm, inc. leads (LxW max))
simulation model BZV90C12 (SUBCKT)
signal-integrity model BZV90-C12
pins: 1 A, 2 K, 3 A, 4 K
text: 2, 4

## BZV90-C13
designator D?
Voltage Regulator Diode; Published: 17-Sep-2003; DatasheetVersion: 17-May-1999; PackageVersion: Aug-2001; PackageReference: SOT223; Publisher: Altium Limited; PackageDescription: SOT-223/SC-73; 4 Leads; Body 6.7 x 7.3 mm, inc. leads (LxW max); ComponentLink1Description: Manufacturer Link; ComponentLink1URL: http://www.semiconductors.philips.com/; ComponentLink2Description: Datasheet; ComponentLink2URL: http://www.semiconductors.philips.com/acrobat/datasheets/BZV90_3.pdf
footprint SOT223 (SOT-223/SC-73; 4 Leads; Body 6.7 x 7.3 mm, inc. leads (LxW max))
simulation model BZV90C13 (SUBCKT)
signal-integrity model BZV90-C13
pins: 1 A, 2 K, 3 A, 4 K
text: 2, 4

## BZV90-C15
designator D?
Voltage Regulator Diode; Published: 17-Sep-2003; DatasheetVersion: 17-May-1999; PackageVersion: Aug-2001; PackageReference: SOT223; Publisher: Altium Limited; PackageDescription: SOT-223/SC-73; 4 Leads; Body 6.7 x 7.3 mm, inc. leads (LxW max); ComponentLink1Description: Manufacturer Link; ComponentLink1URL: http://www.semiconductors.philips.com/; ComponentLink2Description: Datasheet; ComponentLink2URL: http://www.semiconductors.philips.com/acrobat/datasheets/BZV90_3.pdf
footprint SOT223 (SOT-223/SC-73; 4 Leads; Body 6.7 x 7.3 mm, inc. leads (LxW max))
simulation model BZV90C15 (SUBCKT)
signal-integrity model BZV90-C15
pins: 1 A, 2 K, 3 A, 4 K
text: 2, 4

## BZV90-C16
designator D?
Voltage Regulator Diode; Published: 17-Sep-2003; DatasheetVersion: 17-May-1999; PackageVersion: Aug-2001; PackageReference: SOT223; Publisher: Altium Limited; PackageDescription: SOT-223/SC-73; 4 Leads; Body 6.7 x 7.3 mm, inc. leads (LxW max); ComponentLink1Description: Manufacturer Link; ComponentLink1URL: http://www.semiconductors.philips.com/; ComponentLink2Description: Datasheet; ComponentLink2URL: http://www.semiconductors.philips.com/acrobat/datasheets/BZV90_3.pdf
footprint SOT223 (SOT-223/SC-73; 4 Leads; Body 6.7 x 7.3 mm, inc. leads (LxW max))
simulation model BZV90C16 (SUBCKT)
signal-integrity model BZV90-C16
pins: 1 A, 2 K, 3 A, 4 K
text: 2, 4

## BZV90-C18
designator D?
Voltage Regulator Diode; Published: 17-Sep-2003; DatasheetVersion: 17-May-1999; PackageVersion: Aug-2001; PackageReference: SOT223; Publisher: Altium Limited; PackageDescription: SOT-223/SC-73; 4 Leads; Body 6.7 x 7.3 mm, inc. leads (LxW max); ComponentLink1Description: Manufacturer Link; ComponentLink1URL: http://www.semiconductors.philips.com/; ComponentLink2Description: Datasheet; ComponentLink2URL: http://www.semiconductors.philips.com/acrobat/datasheets/BZV90_3.pdf
footprint SOT223 (SOT-223/SC-73; 4 Leads; Body 6.7 x 7.3 mm, inc. leads (LxW max))
simulation model BZV90C18 (SUBCKT)
signal-integrity model BZV90-C18
pins: 1 A, 2 K, 3 A, 4 K
text: 2, 4

## BZV90-C20
designator D?
Voltage Regulator Diode; Published: 17-Sep-2003; DatasheetVersion: 17-May-1999; PackageVersion: Aug-2001; PackageReference: SOT223; Publisher: Altium Limited; PackageDescription: SOT-223/SC-73; 4 Leads; Body 6.7 x 7.3 mm, inc. leads (LxW max); ComponentLink1Description: Manufacturer Link; ComponentLink1URL: http://www.semiconductors.philips.com/; ComponentLink2Description: Datasheet; ComponentLink2URL: http://www.semiconductors.philips.com/acrobat/datasheets/BZV90_3.pdf
footprint SOT223 (SOT-223/SC-73; 4 Leads; Body 6.7 x 7.3 mm, inc. leads (LxW max))
simulation model BZV90C20 (SUBCKT)
signal-integrity model BZV90-C20
pins: 1 A, 2 K, 3 A, 4 K
text: 2, 4

## BZV90-C22
designator D?
Voltage Regulator Diode; Published: 17-Sep-2003; DatasheetVersion: 17-May-1999; PackageVersion: Aug-2001; PackageReference: SOT223; Publisher: Altium Limited; PackageDescription: SOT-223/SC-73; 4 Leads; Body 6.7 x 7.3 mm, inc. leads (LxW max); ComponentLink1Description: Manufacturer Link; ComponentLink1URL: http://www.semiconductors.philips.com/; ComponentLink2Description: Datasheet; ComponentLink2URL: http://www.semiconductors.philips.com/acrobat/datasheets/BZV90_3.pdf
footprint SOT223 (SOT-223/SC-73; 4 Leads; Body 6.7 x 7.3 mm, inc. leads (LxW max))
simulation model BZV90C22 (SUBCKT)
signal-integrity model BZV90-C22
pins: 1 A, 2 K, 3 A, 4 K
text: 2, 4

## BZV90-C24
designator D?
Voltage Regulator Diode; Published: 17-Sep-2003; DatasheetVersion: 17-May-1999; PackageVersion: Aug-2001; PackageReference: SOT223; Publisher: Altium Limited; PackageDescription: SOT-223/SC-73; 4 Leads; Body 6.7 x 7.3 mm, inc. leads (LxW max); ComponentLink1Description: Manufacturer Link; ComponentLink1URL: http://www.semiconductors.philips.com/; ComponentLink2Description: Datasheet; ComponentLink2URL: http://www.semiconductors.philips.com/acrobat/datasheets/BZV90_3.pdf
footprint SOT223 (SOT-223/SC-73; 4 Leads; Body 6.7 x 7.3 mm, inc. leads (LxW max))
simulation model BZV90C24 (SUBCKT)
signal-integrity model BZV90-C24
pins: 1 A, 2 K, 3 A, 4 K
text: 2, 4